# Altium footprint library Connector.PcbLib: 170 footprints (part 10 of 11)
Each footprint in its own frame and in the unit in brackets; x right, y up, seen from the top. Pads: shape width x height; smd on the part's side, far side on the other; paste and mask are expansions set on the pad; w line width, h text height; cw(c..) or ccw(c..) is an arc to the next point about the centre after c.
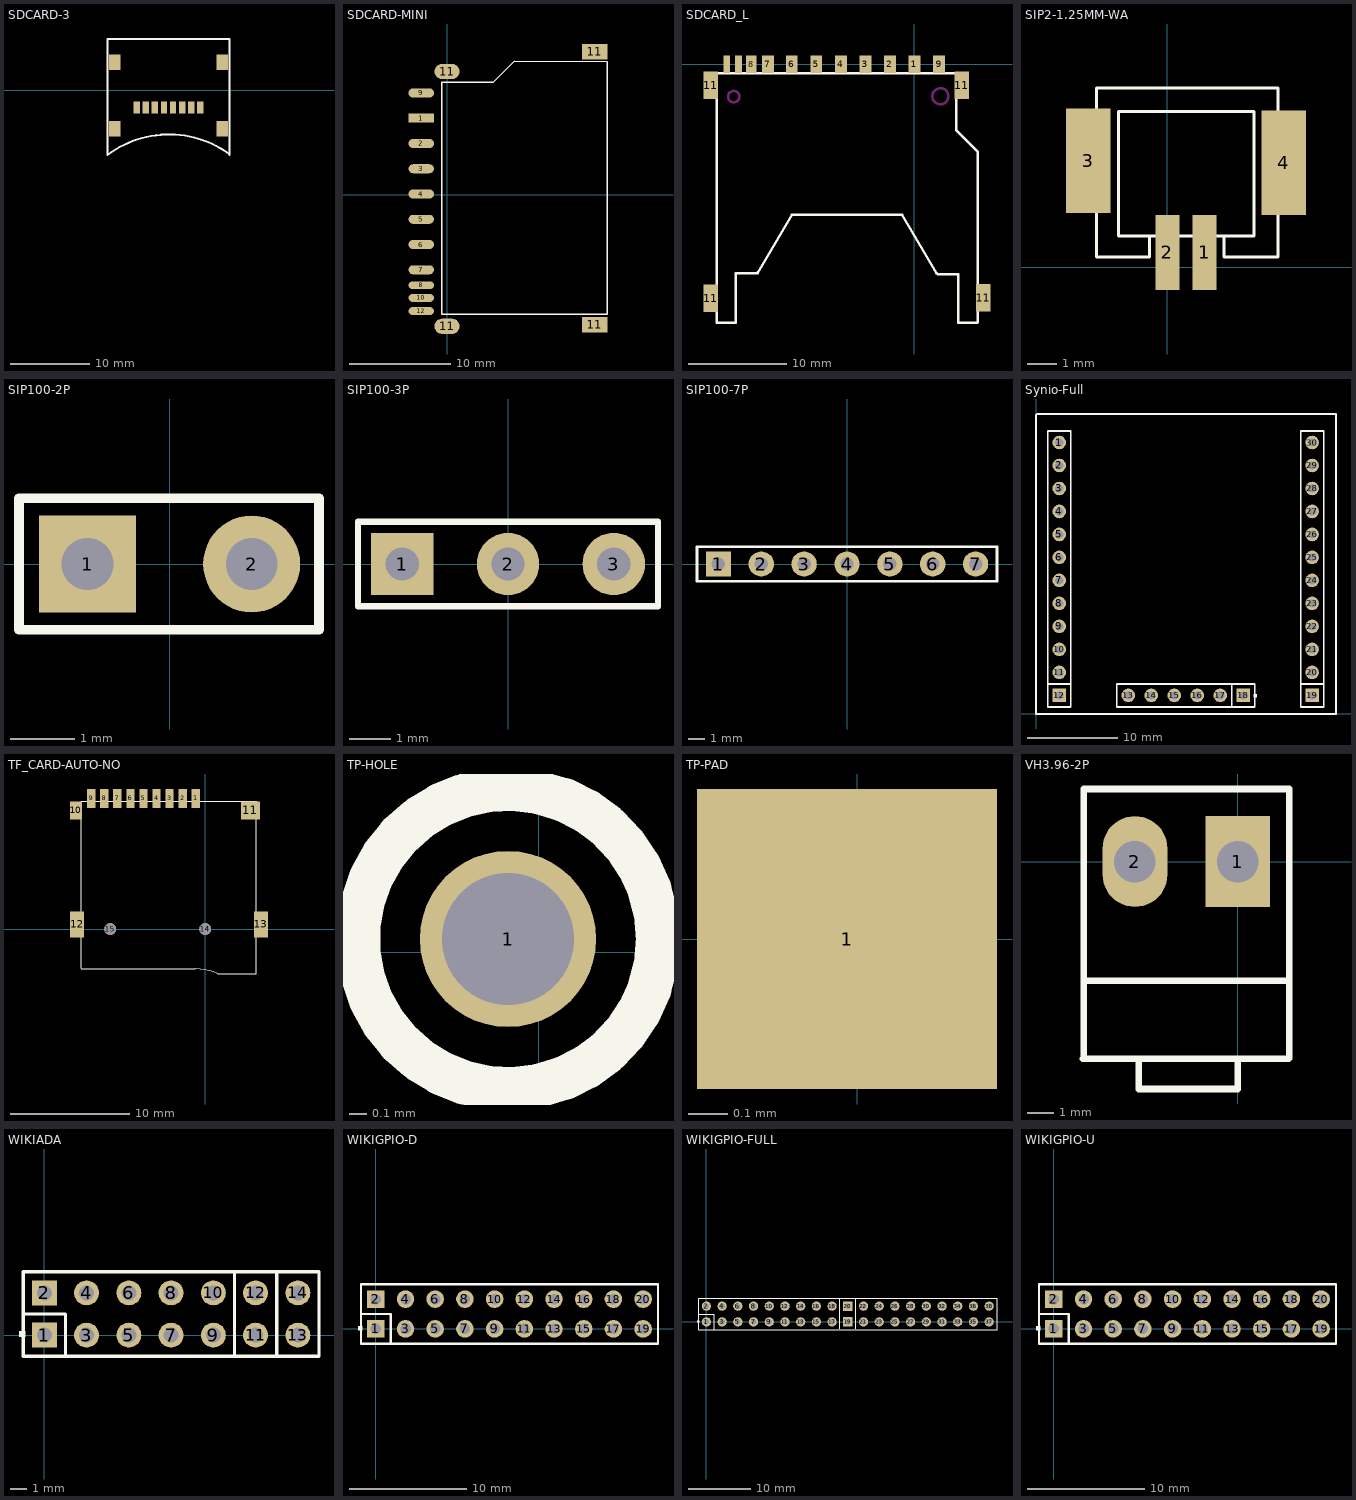
[diagram p9: the footprints below, top view; thin cyan lines are the x and y axes]

## SDCARD-3 [mm]
pads (12):
  rect 0.8x1.5 smd: 1(32.639,-2.159) 2(31.496,-2.159) 3(30.353,-2.159) 4(29.21,-2.159) 5(28.067,-2.159) 6(26.924,-2.159) 7(25.781,-2.159) 8(24.638,-2.159)
  rect 1.45x2 smd: ""(21.844,-4.826) ""(21.844,3.556) ""(35.433,-4.826) ""(35.433,3.556)
Top Overlay:
  lines w0.254: 36.246,-7.979 ccw(c28.702,-18.415) 20.955,-8.128 20.955,6.477 36.322,6.477 36.322,-8.128

## SDCARD-MINI [mm] "小型的SD卡插座"
height 3.2
pads (15):
  rect 2.5x0.889 smd: 1(-2.54,7.518)
  oval 2.5x0.889 smd: 2(-2.54,5.029) 3(-2.54,2.54) 4(-2.54,0.051) 5(-2.54,-2.438) 6(-2.54,-4.928) 7(-2.54,-7.417) 9(-2.54,10.008)
  oval 2.5x0.762 smd: 8(-2.54,-8.941) 10(-2.54,-10.185) 12(-2.54,-11.481)
  oval 2.5x1.5 smd: 11(0,-12.982) 11(0,12.118)
  rect 2.5x1.5 smd: 11(14.55,-12.82) 11(14.55,14.07)
Top Layer:
  lines w0.254: -0.001,12.372 0.001,11.864
Top Overlay:
  lines w0.152: 3.048,11.074 -0.508,11.074 ; -0.508,11.074 4.572,11.074 6.604,13.106 15.761,13.081 15.761,-11.811 -0.508,-11.786 -0.508,11.074

## SDCARD_L [mm]
pads (15):
  rect 1.2x1.8 smd: 1(0,0) 2(-2.489,0) 3(-4.983,-0.009) 4(-7.483,-0.009) 5(-9.983,-0.009) 6(-12.483,-0.009) 7(-14.908,-0.009) 9(2.517,-0.009)
  rect 1.1x1.8 smd: 8(-16.612,0)
  rect 0.7x1.8 smd: 10(-17.908,-0.009) 12(-19.101,0)
  rect 1.5x2.8 smd: 11(-20.726,-23.834) 11(-20.726,-2.143) 11(4.826,-2.143) 11(7.01,-23.784)
Top Overlay:
  lines w0.254: -18.158,-21.3 -18.158,-26.3 -20.131,-26.3 -20.131,-0.914 -20.117,-0.9 4.242,-0.9 4.242,-6.71 6.431,-8.899 6.442,-8.899 6.442,-26.273 6.415,-26.3 4.442,-26.3 4.442,-21.402 2.4,-21.402 2.242,-21.244 ; -18.107,-21.294 -16.065,-21.294 -15.907,-21.136 ; -15.958,-21.294 -12.446,-15.3 ; -12.458,-15.3 -1.258,-15.3 2.242,-21.294
Keep-Out Layer:
  circle w0.254: c2.642,-3.26 r0.82
  circle w0.254: c-18.39,-3.3 r0.58

## SIP2-1.25MM-WA [mm]
pads (4):
  rect 0.8x2.5 smd: 1(1.25,0.5) 2(0,0.5)
  rect 1.5x3.5 smd: 3(-2.65,3.57) 4(3.9,3.501)
Top Overlay:
  lines w0.102: -0.59,0.977 -0.59,0.355 -2.369,0.355 -2.369,6.003 3.7,6.003 3.7,0.355 1.9,0.355 1.9,0.979 ; -1.636,1.048 2.9,1.048 2.9,5.23 -1.636,5.23 -1.636,1.048

## SIP100-2P [mm]
pads (2):
  rect 1.5x1.5 hole 0.8: 1(-1.27,0)
  round 1.5 hole 0.8: 2(1.27,0)
Top Overlay:
  lines w0.15: -2.33,-1.016 2.311,-1.016 2.311,1.016 -2.33,1.016 -2.33,-1.016

## SIP100-3P [mm]
pads (3):
  rect 1.5x1.5 hole 0.8: 1(-2.54,0)
  round 1.5 hole 0.8: 2(0,0) 3(2.54,0)
Top Overlay:
  lines w0.15: -3.6,-1.016 3.6,-1.016 3.6,1.016 -3.6,1.016 -3.6,-1.016

## SIP100-7P [mm]
pads (7):
  rect 1.5x1.5 hole 0.8: 1(-7.62,0)
  round 1.5 hole 0.8: 2(-5.08,0) 3(-2.54,0) 4(0,0) 5(2.54,0) 6(5.08,0) 7(7.62,0)
Top Overlay:
  lines w0.15: -8.89,-1.016 -8.89,1.016 8.89,1.016 8.89,-1.016 -8.89,-1.016

## Synio-Full [mm]
pads (30):
  round 1.5 hole 0.9: 1(2.575,29.997) 2(2.575,27.457) 3(2.575,24.917) 4(2.575,22.377) 5(2.575,19.837) 6(2.575,17.297) 7(2.575,14.757) 8(2.575,12.217) 9(2.575,9.677) 10(2.575,7.137) 11(2.575,4.597) 13(10.195,2.057) 14(12.735,2.057) 15(15.275,2.057) 16(17.815,2.057) 17(20.355,2.057) 20(30.515,4.597) 21(30.515,7.137) 22(30.515,9.677) 23(30.515,12.217) 24(30.515,14.757) 25(30.515,17.297) 26(30.515,19.837) 27(30.515,22.377) 28(30.515,24.917) 29(30.515,27.457) 30(30.515,29.997)
  rect 1.5x1.5 hole 0.9: 12(2.575,2.057) 18(22.895,2.057) 19(30.515,2.057)
Top Overlay:
  region: 24.419,2.184 24.038,2.184 24.038,1.803 24.419,1.803
  lines w0.2: 1.305,3.327 3.845,3.327 ; 1.305,31.262 3.845,31.262 ; 1.305,31.267 1.305,2.692 1.305,0.787 3.845,0.787 3.845,31.267 ; 21.625,0.787 21.625,3.327 ; 29.245,3.327 31.785,3.327 ; 29.245,31.262 31.785,31.262 ; 29.245,31.267 29.245,2.692 29.245,0.787 31.785,0.787 31.785,31.267 ; 8.925,0.787 24.165,0.787 24.165,3.327 8.925,3.327 8.925,0.787
  lines w0.254: 0,0 0,33.02 ; 0.127,0 33.147,0 33.147,33.02 ; 0.127,33.147 33.147,33.147
3D body: height 8.51, standoff -3.68, extent 29.071,28.71 31.991,31.25
3D body: height 8.51, standoff -3.68, extent 29.071,26.17 31.991,28.71
3D body: height 8.51, standoff -3.68, extent 29.071,0.77 31.991,3.31
3D body: height 8.51, standoff -3.68, extent 29.071,3.31 31.991,5.85
3D body: height 8.51, standoff -3.68, extent 29.071,10.93 31.991,13.47
3D body: height 8.51, standoff -3.68, extent 29.071,8.39 31.991,10.93
3D body: height 8.51, standoff -3.68, extent 29.071,5.85 31.991,8.39
3D body: height 8.51, standoff -3.68, extent 29.071,13.47 31.991,16.01
3D body: height 8.51, standoff -3.68, extent 29.071,16.01 31.991,18.55
3D body: height 8.51, standoff -3.68, extent 29.071,23.63 31.991,26.17
3D body: height 8.51, standoff -3.68, extent 29.071,21.09 31.991,23.63
3D body: height 8.51, standoff -3.68, extent 29.071,18.55 31.991,21.09
3D body: height 8.51, standoff -3.68, extent 14.052,0.638 16.592,3.558
3D body: height 8.51, standoff -3.68, extent 11.512,0.638 14.052,3.558
3D body: height 8.51, standoff -3.68, extent 8.972,0.638 11.512,3.558
3D body: height 8.51, standoff -3.68, extent 16.592,0.638 19.132,3.558
3D body: height 8.51, standoff -3.68, extent 19.132,0.638 21.672,3.558
3D body: height 8.51, standoff -3.68, extent 21.672,0.638 24.212,3.558
3D body: height 8.51, standoff -3.68, extent 1.131,18.55 4.051,21.09
3D body: height 8.51, standoff -3.68, extent 1.131,21.09 4.051,23.63
3D body: height 8.51, standoff -3.68, extent 1.131,23.63 4.051,26.17
3D body: height 8.51, standoff -3.68, extent 1.131,16.01 4.051,18.55
3D body: height 8.51, standoff -3.68, extent 1.131,13.47 4.051,16.01
3D body: height 8.51, standoff -3.68, extent 1.131,5.85 4.051,8.39
3D body: height 8.51, standoff -3.68, extent 1.131,8.39 4.051,10.93
3D body: height 8.51, standoff -3.68, extent 1.131,10.93 4.051,13.47
3D body: height 8.51, standoff -3.68, extent 1.131,3.31 4.051,5.85
3D body: height 8.51, standoff -3.68, extent 1.131,0.77 4.051,3.31
3D body: height 8.51, standoff -3.68, extent 1.131,26.17 4.051,28.71
3D body: height 8.51, standoff -3.68, extent 1.131,28.71 4.051,31.25

## TF_CARD-AUTO-NO [mm]
pads (15):
  rect 0.7x1.6 smd: 1(-0.8,11) 2(-1.9,11) 3(-3,11) 4(-4.1,11) 5(-5.2,11) 6(-6.3,11) 7(-7.4,11) 8(-8.5,11) 9(-9.6,11)
  rect 1x1.5 smd: 10(-10.9,10)
  rect 1.6x1.5 smd: 11(3.8,10)
  rect 1.2x2.2 smd: 12(-10.8,0.4) 13(4.7,0.4)
  round 1 hole 1 unplated: 14(0,0) 15(-8,0)
Top Overlay:
  lines w0.1: -10.432,10.749 4.329,10.749 ; -10.429,-3.35 -0.825,-3.35 ; -10.429,-3.301 -10.429,10.751 ; -0.802,-3.35 cw(c-0.926,-8.411) 1.044,-3.747 ; 1.05,-3.75 4.321,-3.75 ; 4.321,-3.775 4.321,10.751

## TP-HOLE [mil] "TEST POINT"
height 511.81
pads (1):
  round 40 hole 30: 1(-7,3)
Top Overlay:
  circle w10: c-7,3 r34.06

## TP-PAD [mil] "TEST POINT"
pads (1):
  rect 30x30 smd: 1(-1,0)

## VH3.96-2P [mm]
pads (2):
  rect 2.5x3.5 hole 1.6: 1(0,0)
  oval 2.5x3.5 hole 1.6: 2(-3.96,0)
Top Overlay:
  lines w0.2: -5.969,-7.59 -5.94,-7.561
  lines w0.254: -5.969,-7.59 1.958,-7.59 1.98,-7.568 1.98,-4.191 ; -5.94,-7.561 -5.94,-4.318 ; -3.81,-7.62 -3.81,-8.763 0,-8.763 0,-7.62 ; 1.905,-4.589 -5.94,-4.589 -5.94,2.794 1.905,2.794 ; 1.98,-4.589 1.98,2.794

## WIKIADA [mm] "Connector; Header; 7x2 Position"
pads (14):
  rect 1.5x1.5 hole 0.9: 1(0,0) 2(0,2.54)
  round 1.5 hole 0.9: 3(2.54,0) 4(2.54,2.54) 5(5.08,0) 6(5.08,2.54) 7(7.62,0) 8(7.62,2.54) 9(10.16,0) 10(10.16,2.54) 11(12.7,0) 12(12.7,2.54) 13(15.24,0) 14(15.24,2.54)
Top Overlay:
  rectangle: -1.524,-0.127 -1.143,0.254
  lines w0.2: -1.27,1.27 1.27,1.27 1.27,-1.27 ; -1.27,-1.27 -1.27,3.81 16.51,3.81 16.51,-1.27 -1.27,-1.27
  lines w0.203: 11.43,-1.27 11.43,3.81 ; 13.97,-1.27 13.97,3.81

## WIKIGPIO-D [mm] "Connector; Header; 9x2 Position"
pads (20):
  rect 1.5x1.5 hole 0.9: 1(0,0) 2(0,2.54)
  round 1.5 hole 0.9: 3(2.54,0) 4(2.54,2.54) 5(5.08,0) 6(5.08,2.54) 7(7.62,0) 8(7.62,2.54) 9(10.16,0) 10(10.16,2.54) 11(12.7,0) 12(12.7,2.54) 13(15.24,0) 14(15.24,2.54) 15(17.78,0) 16(17.78,2.54) 17(20.32,0) 18(20.32,2.54) 19(22.86,0) 20(22.86,2.54)
Top Overlay:
  rectangle: -1.524,-0.127 -1.143,0.254
  lines w0.2: -1.27,1.27 1.27,1.27 1.27,-1.27 ; -1.27,-1.27 0.635,-1.27 24.13,-1.27 24.13,3.81 0.635,3.81 -1.27,3.81 -1.27,-1.27

## WIKIGPIO-FULL [mm] "Connector; Header; 19x2 Position"
pads (38):
  round 1.5 hole 0.9: 1(0,0) 2(0,2.54) 3(2.54,0) 4(2.54,2.54) 5(5.08,0) 6(5.08,2.54) 7(7.62,0) 8(7.62,2.54) 9(10.16,0) 10(10.16,2.54) 11(12.7,0) 12(12.7,2.54) 13(15.24,0) 14(15.24,2.54) 15(17.78,0) 16(17.78,2.54) 17(20.32,0) 18(20.32,2.54) 21(25.4,0) 22(25.4,2.54) 23(27.94,0) 24(27.94,2.54) 25(30.48,0) 26(30.48,2.54) 27(33.02,0) 28(33.02,2.54) 29(35.56,0) 30(35.56,2.54) 31(38.1,0) 32(38.1,2.54) 33(40.64,0) 34(40.64,2.54) 35(43.18,0) 36(43.18,2.54) 37(45.72,0) 38(45.72,2.54)
  rect 1.5x1.5 hole 0.9: 19(22.86,0) 20(22.86,2.54)
Top Overlay:
  rectangle: -1.524,-0.127 -1.143,0.254
  lines w0.2: -1.27,1.27 1.27,1.27 1.27,-1.27 ; 21.59,-1.143 21.59,3.81 ; 24.13,-1.143 24.13,3.81 ; -1.27,-1.27 -1.27,3.81 46.99,3.81 46.99,-1.27 -1.27,-1.27

## WIKIGPIO-U [mm] "Connector; Header; 9x2 Position"
pads (20):
  rect 1.5x1.5 hole 0.9: 1(0,0) 2(0,2.54)
  round 1.5 hole 0.9: 3(2.54,0) 4(2.54,2.54) 5(5.08,0) 6(5.08,2.54) 7(7.62,0) 8(7.62,2.54) 9(10.16,0) 10(10.16,2.54) 11(12.7,0) 12(12.7,2.54) 13(15.24,0) 14(15.24,2.54) 15(17.78,0) 16(17.78,2.54) 17(20.32,0) 18(20.32,2.54) 19(22.86,0) 20(22.86,2.54)
Top Overlay:
  rectangle: -1.524,-0.127 -1.143,0.254
  lines w0.2: -1.27,1.27 1.27,1.27 1.27,-1.27 ; -1.27,-1.27 0.635,-1.27 24.13,-1.27 24.13,3.81 0.635,3.81 -1.27,3.81 -1.27,-1.27